# EAGLE library part PMDT290UNE (library PMDT290UNE)
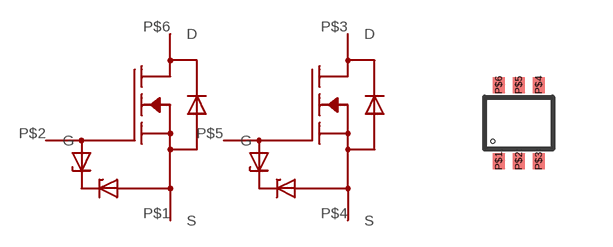
[diagram p0: symbol with the pads of SOT666; footprint SOT666]

Designator prefix -; gates G$1=PMDT290UNE G$2=PMDT290UNE

## PMDT290UNE  [SOT666]
P$1  G$1:S
P$2  G$1:G
P$3  G$2:D
P$4  G$2:S
P$5  G$2:G
P$6  G$1:D

## Footprint SOT666 (pad centres in mm)
smd 0.3 x 0.4: P$1 -0.5,-0.95; P$2 0,-0.95; P$3 0.5,-0.95; P$4 0.5,0.95; P$5 0,0.95; P$6 -0.5,0.95